# Altium schematic symbol library IPWL.Schlib: 1 symbol
Pins are listed as number, name and electrical type; pins without a type are passive.

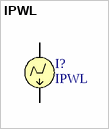
[diagram p0: symbol IPWL]

## IPWL
designator I?
Piecewise Linear Current Source
pins: 1, 2